# Altium schematic symbol library 74HC04.Schlib: 1 symbol
Pins are listed as number, name and electrical type; pins without a type are passive.

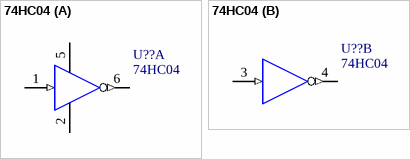
[diagram p0: symbol 74HC04]

## 74HC04
designator U??
Dual Inverter; Package Information: Latest Revision: 1991; Published: 17-Jul-2002; Datasheet: High-Speed CMOS Logic Data, DL129 Rev4 (1989); Package Reference: 751A-02; Publisher: Altium Limited
footprint SOT23-6
signal-integrity model MC74HC04AD
part A pins: 1 A (in), 2 Gnd (power), 5 Ucc (power), 6 Y (out)
part B pins: 3 A (in), 4 Y (out)